# Altium schematic symbol library Interface_HID.SchLib: 5 symbols
Pins are listed as number, name and electrical type; pins without a type are passive.

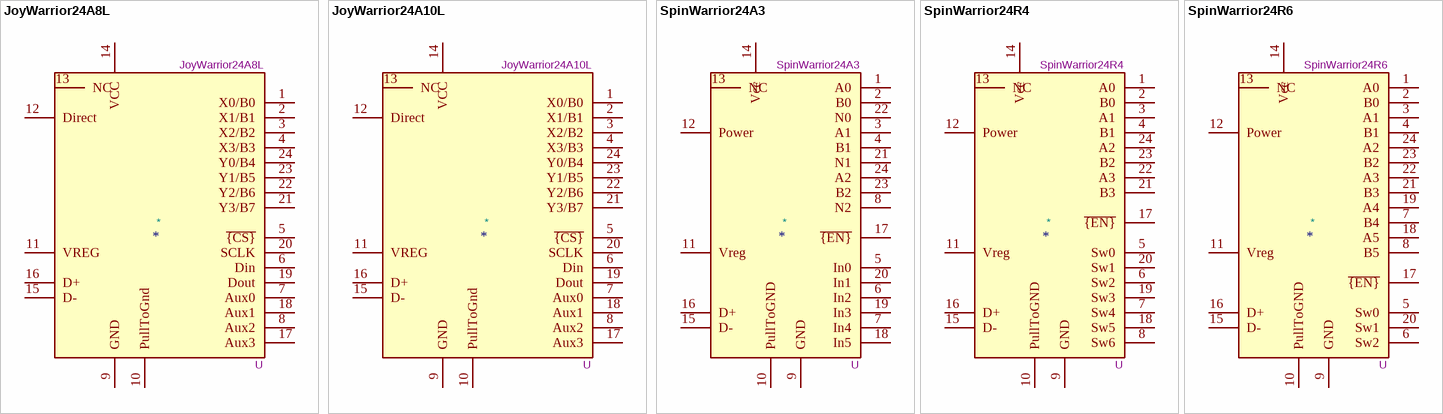
[diagram p0: symbols JoyWarrior24A8L to SpinWarrior24R6]

## JoyWarrior24A8L
designator *  value JoyWarrior24A8L  Reference: U
JoyWarrior 8bit, 4 axis, joystick controller, DIP-24/SOIC-24; ki_keywords: joystick controller, 8 bit, 4 axis; ki_fp_filters: SOIC*7.5x15.4mm*P1.27mm* DIP*7.62mm*; Datasheet: http://codemercs.com/downloads/joywarrior/JW_Datasheet.pdf; Description_: JoyWarrior 8bit, 4 axis, joystick controller, DIP-24/SOIC-24
pins: 1 X0/B0, 2 X1/B1, 3 X2/B2, 4 X3/B3, 5 ~{{CS}}, 6 Din, 7 Aux0, 8 Aux2, 9 GND, 10 PullToGnd, 11 VREG, 12 Direct, 13 NC, 14 VCC, 15 D-, 16 D+, 17 Aux3, 18 Aux1, 19 Dout, 20 SCLK, 21 Y3/B7, 22 Y2/B6, 23 Y1/B5, 24 Y0/B4

## JoyWarrior24A10L
designator *  value JoyWarrior24A10L  Reference: U
JoyWarrior 10bit, 3 axis, joystick controller, DIP-24/SOIC-24; ki_keywords: joystick controller 10bit 3-axis; ki_fp_filters: SOIC*7.5x15.4mm*P1.27mm* DIP*7.62mm*; Datasheet: http://codemercs.com/downloads/joywarrior/JW_Datasheet.pdf; Description_: JoyWarrior 10bit, 3 axis, joystick controller, DIP-24/SOIC-24
pins: 1 X0/B0, 2 X1/B1, 3 X2/B2, 4 X3/B3, 5 ~{{CS}}, 6 Din, 7 Aux0, 8 Aux2, 9 GND, 10 PullToGnd, 11 VREG, 12 Direct, 13 NC, 14 VCC, 15 D-, 16 D+, 17 Aux3, 18 Aux1, 19 Dout, 20 SCLK, 21 Y3/B7, 22 Y2/B6, 23 Y1/B5, 24 Y0/B4

## SpinWarrior24A3
designator *  value SpinWarrior24A3  Reference: U
SpinWarrior, 3 16bit absolute position rotary encoders, 6 digital inputs, DIP-24/SOIC-24; ki_keywords: 16bit absolute position USB rotary encoder; ki_fp_filters: DIP*7.62mm* SOIC*7.5x15.4mm*P1.27mm*; Datasheet: http://www.codemercs.com/downloads/spinwarrior/SW_Datasheet.pdf; Description_: SpinWarrior, 3 16bit absolute position rotary encoders, 6 digital inputs, DIP-24/SOIC-24
pins: 1 A0, 2 B0, 3 A1, 4 B1, 5 In0, 6 In2, 7 In4, 8 N2, 9 GND, 10 PullToGND, 11 Vreg, 12 Power, 13 NC, 14 Vcc, 15 D-, 16 D+, 17 ~{{EN}}, 18 In5, 19 In3, 20 In1, 21 N1, 22 N0, 23 B2, 24 A2

## SpinWarrior24R4
designator *  value SpinWarrior24R4  Reference: U
SpinWarrior, 4 8bit relative position rotary encoders, 7 switches, DIP-24/SOIC-24; ki_keywords: 8bit relative position USB rotary encoder; ki_fp_filters: DIP*7.62mm* SOIC*7.5x15.4mm*P1.27mm*; Datasheet: http://www.codemercs.com/downloads/spinwarrior/SW_Datasheet.pdf; Description_: SpinWarrior, 4 8bit relative position rotary encoders, 7 switches, DIP-24/SOIC-24
pins: 1 A0, 2 B0, 3 A1, 4 B1, 5 Sw0, 6 Sw2, 7 Sw4, 8 Sw6, 9 GND, 10 PullToGND, 11 Vreg, 12 Power, 13 NC, 14 Vcc, 15 D-, 16 D+, 17 ~{{EN}}, 18 Sw5, 19 Sw3, 20 Sw1, 21 B3, 22 A3, 23 B2, 24 A2

## SpinWarrior24R6
designator *  value SpinWarrior24R6  Reference: U
SpinWarrior, 6 8bit relative position rotary encoders, 3 switches, DIP-24/SOIC-24; ki_keywords: 8bit relative position USB rotary encoder; ki_fp_filters: DIP*7.62mm* SOIC*7.5x15.4mm*P1.27mm*; Datasheet: http://www.codemercs.com/downloads/spinwarrior/SW_Datasheet.pdf; Description_: SpinWarrior, 6 8bit relative position rotary encoders, 3 switches, DIP-24/SOIC-24
pins: 1 A0, 2 B0, 3 A1, 4 B1, 5 Sw0, 6 Sw2, 7 B4, 8 B5, 9 GND, 10 PullToGND, 11 Vreg, 12 Power, 13 NC, 14 Vcc, 15 D-, 16 D+, 17 ~{{EN}}, 18 A5, 19 A4, 20 Sw1, 21 B3, 22 A3, 23 B2, 24 A2